# Altium footprint library Inductor_THT.PcbLib: 269 footprints (part 9 of 17)
Each footprint in its own frame and in the unit in brackets; x right, y up, seen from the top. Pads: shape width x height; smd on the part's side, far side on the other; paste and mask are expansions set on the pad; w line width, h text height; cw(c..) or ccw(c..) is an arc to the next point about the centre after c.
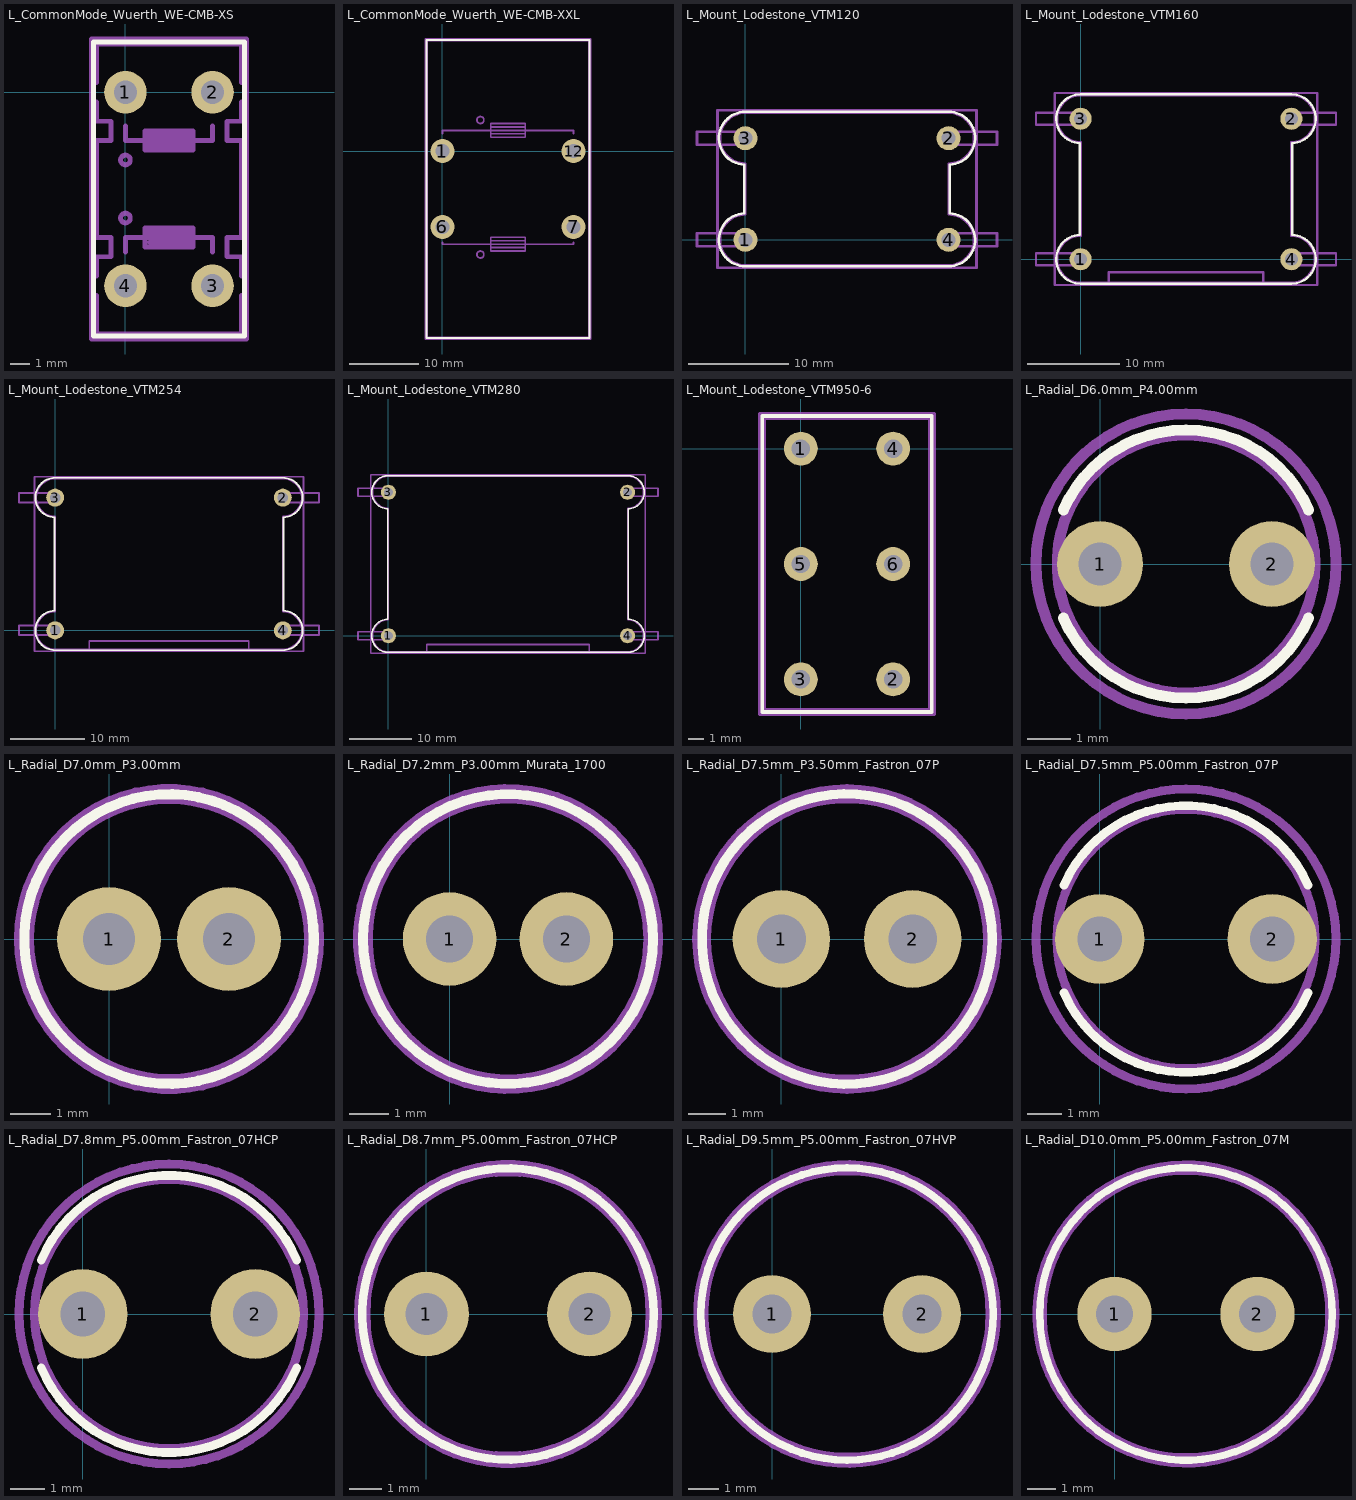
[diagram p8: the footprints below, top view; thin cyan lines are the x and y axes]

## L_CommonMode_Wuerth_WE-CMB-XS [mm]
pads (4):
  round 2.2 hole 1.2: 1(0,0) 2(4.5,0) 3(4.5,-10) 4(0,-10)
F.SilkS:
  lines w0.254: -1.65,-12.6 6.15,-12.6 6.15,2.6 -1.65,2.6 -1.65,-12.6
Top Assembly:
  circle w0.254: c0,-6.5 r0.25
  circle w0.254: c0,-3.5 r0.25
  lines w0.254: -1.5,-10.5 -1.5,-12.5 6,-12.5 6,-10.5 ; -1.5,-9.5 -1.5,-8.5 -0.75,-8.5 -0.75,-7.5 -1.5,-7.5 -1.5,-2.5 -0.75,-2.5 -0.75,-1.5 -1.5,-1.5 -1.5,-0.5 ; -1.5,0.5 -1.5,2.5 2.25,2.5 6,2.5 6,0.5 ; 0,-8.25 0,-7.5 1,-7.5 3.5,-7.5 4.5,-7.5 4.5,-8.25 ; 0,-1.75 0,-2.5 1,-2.5 ; 1,-7.25 3.5,-7.25 ; 1,-2.75 3.5,-2.75 ; 1.25,-7.75 3.5,-7.75 ; 3.5,-2.25 1,-2.25 1,-2.5 ; 4.5,-1.75 4.5,-2.5 3.5,-2.5 1,-2.5 ; 6,-9.5 6,-8.5 5.25,-8.5 5.25,-7.5 6,-7.5 6,-2.5 5.25,-2.5 5.25,-1.5 6,-1.5 6,-0.5 ; 1,-8 2.25,-8 3.5,-8 3.5,-7 1.25,-7 1,-7 1,-8 ; 1,-3 3.5,-3 3.5,-2 2.25,-2 1,-2 1,-3
  text "4" at 1.243,-10.65 h1
  text "2" at 2.267,-0.65 h1
  text "3" at 2.267,-10.65 h1
  text "'.Designator'" at -1.797,-5.84 h1
  text "1" at 1.481,-0.65 h1
Top Courtyard:
  lines w0.254: -1.75,-12.75 6.25,-12.75 6.25,2.75 -1.75,2.75 -1.75,-12.75
Top Designator:
  text ".Designator" at -5.402,-5.508 h1.52

## L_CommonMode_Wuerth_WE-CMB-XXL [mm]
pads (4):
  round 3.5 hole 2: 1(0,0) 6(0,-11) 7(19,-11) 12(19,0)
F.SilkS:
  lines w0.254: -2.3,-27.1 21.3,-27.1 21.3,16.1 -2.3,16.1 -2.3,-27.1
Top Assembly:
  circle w0.254: c5.5,-15 r0.5
  circle w0.254: c5.5,4.5 r0.5
  lines w0.254: 0,-13.25 0,-13.5 2,-13.5 3.5,-13.5 4.5,-13.5 7,-13.5 12,-13.5 14.5,-13.5 17,-13.5 19,-13.5 19,-13.25 ; 0,2.5 0,3 2,3 3.5,3 4.5,3 7,3 12,3 14.5,3 15.5,3 17,3 19,3 19,2.5 ; 7,-14 12,-14 ; 7,-13 12,-13 ; 7,2.5 12,2.5 ; 7,3.5 12,3.5 ; -2.25,-27 21.25,-27 21.25,16 -2.25,16 -2.25,-27 ; 7,-14.5 12,-14.5 12,-12.5 7,-12.5 7,-14.5 ; 7,2 12,2 12,4 9.5,4 7,4 7,2
  text "12" at 17.65,4.85 h1
  text "7" at 19.017,-16.15 h1
  text "1" at -0.769,4.85 h1
  text "6" at -0.959,-16.15 h1
  text "'.Designator'" at 5.453,-5.84 h1
Top Courtyard:
  lines w0.254: -2.5,-27.25 21.5,-27.25 21.5,16.25 -2.5,16.25 -2.5,-27.25
Top Designator:
  text ".Designator" at 1.882,-6.008 h1.52

## L_Mount_Lodestone_VTM120 [mm]
pads (4):
  round 2.4 hole 1.4: 1(0,0) 2(20.32,10.16) 3(0,10.16) 4(20.32,0)
F.SilkS:
  lines w0.254: -0.111,2.648 ccw(c0,0) 0,-2.65 20.32,-2.65 ccw(c20.32,0) 20.431,2.648 ; -0.11,2.65 -0.11,7.51 ; -0.111,7.512 cw(c0,10.16) 0,12.81 20.32,12.81 cw(c20.32,10.16) 20.431,7.512 ; 20.43,2.65 20.43,7.51
Top Assembly:
  lines w0.254: -4.84,-0.635 0,-0.635 ccw(c0,0) 0,0.635 -4.84,0.635 -4.84,-0.635 ; -4.84,9.525 0,9.525 ccw(c0,10.16) 0,10.795 -4.84,10.795 -4.84,9.525 ; 0,-2.54 cw(c0,0) 0,2.54 0,7.62 cw(c0,10.16) 0,12.7 20.32,12.7 cw(c20.32,10.16) 20.32,7.62 20.32,2.54 cw(c20.32,0) 20.32,-2.54 0,-2.54 ; 20.32,-0.635 cw(c20.32,0) 20.32,0.635 25.16,0.635 25.16,-0.635 20.32,-0.635 ; 20.32,9.525 cw(c20.32,10.16) 20.32,10.795 25.16,10.795 25.16,9.525 20.32,9.525
  text "'.Designator'" at 7.383,6.78 h1
Top Courtyard:
  lines w0.254: -2.79,-2.79 23.11,-2.79 23.11,12.95 -2.79,12.95 -2.79,-2.79
Top Designator:
  text ".Designator" at 2.542,4.572 h1.52

## L_Mount_Lodestone_VTM160 [mm]
pads (4):
  round 2.4 hole 1.4: 1(0,0) 2(22.86,15.24) 3(0,15.24) 4(22.86,0)
F.SilkS:
  lines w0.254: -0.111,2.648 ccw(c0,0) 0,-2.65 22.86,-2.65 ccw(c22.86,0) 22.971,2.648 ; -0.11,2.65 -0.11,12.59 ; -0.111,12.592 cw(c0,15.24) 0,17.89 22.86,17.89 cw(c22.86,15.24) 22.971,12.592 ; 22.97,2.65 22.97,12.59
Top Assembly:
  lines w0.254: 3.05,-2.54 3.05,-1.395 19.81,-1.395 19.81,-2.54 ; -4.84,-0.635 0,-0.635 ccw(c0,0) 0,0.635 -4.84,0.635 -4.84,-0.635 ; -4.84,14.605 0,14.605 ccw(c0,15.24) 0,15.875 -4.84,15.875 -4.84,14.605 ; 0,-2.54 cw(c0,0) 0,2.54 0,12.7 cw(c0,15.24) 0,17.78 22.86,17.78 cw(c22.86,15.24) 22.86,12.7 22.86,2.54 cw(c22.86,0) 22.86,-2.54 0,-2.54 ; 22.86,-0.635 cw(c22.86,0) 22.86,0.635 27.7,0.635 27.7,-0.635 22.86,-0.635 ; 22.86,14.605 cw(c22.86,15.24) 22.86,15.875 27.7,15.875 27.7,14.605 22.86,14.605
  text "'.Designator'" at 7.383,6.78 h1
Top Courtyard:
  lines w0.254: -2.79,-2.79 25.65,-2.79 25.65,18.03 -2.79,18.03 -2.79,-2.79
Top Designator:
  text ".Designator" at 3.812,7.112 h1.52

## L_Mount_Lodestone_VTM254 [mm]
pads (4):
  round 2.4 hole 1.4: 1(0,0) 2(30.48,17.78) 3(0,17.78) 4(30.48,0)
F.SilkS:
  lines w0.254: -0.111,2.648 ccw(c0,0) 0,-2.65 30.48,-2.65 ccw(c30.48,0) 30.591,2.648 ; -0.11,2.65 -0.11,15.13 ; -0.111,15.132 cw(c0,17.78) 0,20.43 30.48,20.43 cw(c30.48,17.78) 30.591,15.132 ; 30.59,2.65 30.59,15.13
Top Assembly:
  lines w0.254: 4.57,-2.54 4.57,-1.395 25.91,-1.395 25.91,-2.54 ; -4.84,-0.635 0,-0.635 ccw(c0,0) 0,0.635 -4.84,0.635 -4.84,-0.635 ; -4.84,17.145 0,17.145 ccw(c0,17.78) 0,18.415 -4.84,18.415 -4.84,17.145 ; 0,-2.54 cw(c0,0) 0,2.54 0,15.24 cw(c0,17.78) 0,20.32 30.48,20.32 cw(c30.48,17.78) 30.48,15.24 30.48,2.54 cw(c30.48,0) 30.48,-2.54 0,-2.54 ; 30.48,-0.635 cw(c30.48,0) 30.48,0.635 35.32,0.635 35.32,-0.635 30.48,-0.635 ; 30.48,17.145 cw(c30.48,17.78) 30.48,18.415 35.32,18.415 35.32,17.145 30.48,17.145
  text "'.Designator'" at 11.193,8.05 h1
Top Courtyard:
  lines w0.254: -2.79,-2.79 33.27,-2.79 33.27,20.57 -2.79,20.57 -2.79,-2.79
Top Designator:
  text ".Designator" at 7.622,8.382 h1.52

## L_Mount_Lodestone_VTM280 [mm]
pads (4):
  round 2.4 hole 1.4: 1(0,0) 2(38.1,22.86) 3(0,22.86) 4(38.1,0)
F.SilkS:
  lines w0.254: -0.111,2.648 ccw(c0,0) 0,-2.65 38.1,-2.65 ccw(c38.1,0) 38.211,2.648 ; -0.11,2.65 -0.11,20.21 ; -0.111,20.212 cw(c0,22.86) 0,25.51 38.1,25.51 cw(c38.1,22.86) 38.211,20.212 ; 38.21,2.65 38.21,20.21
Top Assembly:
  lines w0.254: 6.1,-2.54 6.1,-1.395 32,-1.395 32,-2.54 ; -4.84,-0.635 0,-0.635 ccw(c0,0) 0,0.635 -4.84,0.635 -4.84,-0.635 ; -4.84,22.225 0,22.225 ccw(c0,22.86) 0,23.495 -4.84,23.495 -4.84,22.225 ; 0,-2.54 cw(c0,0) 0,2.54 0,20.32 cw(c0,22.86) 0,25.4 38.1,25.4 cw(c38.1,22.86) 38.1,20.32 38.1,2.54 cw(c38.1,0) 38.1,-2.54 0,-2.54 ; 38.1,-0.635 cw(c38.1,0) 38.1,0.635 42.94,0.635 42.94,-0.635 38.1,-0.635 ; 38.1,22.225 cw(c38.1,22.86) 38.1,23.495 42.94,23.495 42.94,22.225 38.1,22.225
  text "'.Designator'" at 15.003,10.59 h1
Top Courtyard:
  lines w0.254: -2.79,-2.79 40.89,-2.79 40.89,25.65 -2.79,25.65 -2.79,-2.79
Top Designator:
  text ".Designator" at 11.432,10.922 h1.52

## L_Mount_Lodestone_VTM950-6 [mm]
pads (6):
  round 2.2 hole 1.2: 1(0,0) 2(6,-15) 3(0,-15) 4(6,0) 5(0,-7.5) 6(6,-7.5)
F.SilkS:
  lines w0.254: -2.51,-17.11 -2.51,2.11 8.51,2.11 8.51,-17.11 -2.51,-17.11
Top Assembly:
  lines w0.254: -2.4,-17 -2.4,2 8.4,2 8.4,-17 -2.4,-17
  text "'.Designator'" at -1.047,-8.34 h1
Top Courtyard:
  lines w0.254: -2.65,-17.25 -2.65,2.25 8.65,2.25 8.65,-17.25 -2.65,-17.25
Top Designator:
  text ".Designator" at -4.618,-8.008 h1.52

## L_Radial_D6.0mm_P4.00mm [mm]
pads (2):
  round 2 hole 1: 1(0,0) 2(4,0)
F.SilkS:
  lines w0.254: -0.854,-1.26 ccw(c2,0) 4.854,-1.26 ; -0.854,1.26 cw(c2,0) 4.854,1.26
Top Assembly:
  circle w0.254: c2,0 r3
  text "'.Designator'" at -2.047,-0.84 h1
Top Courtyard:
  circle w0.254: c2,0 r3.49
Top Designator:
  text ".Designator" at -5.768,-0.508 h1.52
3D body "L_Radial_D6.0mm_P4.00mm.step": height 4.65, standoff -3, extent -1,-3 5,3

## L_Radial_D7.0mm_P3.00mm [mm]
pads (2):
  round 2.6 hole 1.3: 1(0,0) 2(3,0)
F.SilkS:
  circle w0.254: c1.5,0 r3.62
Top Assembly:
  circle w0.254: c1.5,0 r3.5
  text "'.Designator'" at -2.547,-0.84 h1
Top Courtyard:
  circle w0.254: c1.5,0 r3.75
Top Designator:
  text ".Designator" at -6.268,-0.508 h1.52
3D body "L_Radial_D7.0mm_P3.00mm.step": height 9.55, standoff -3, extent -2,-3.497 5,3.497

## L_Radial_D7.2mm_P3.00mm_Murata_1700 [mm]
pads (2):
  round 2.4 hole 1.2: 1(0,0) 2(3,0)
F.SilkS:
  circle w0.254: c1.5,0 r3.72
Top Assembly:
  circle w0.254: c1.5,0 r3.6
  text "'.Designator'" at -2.547,-0.84 h1
Top Courtyard:
  circle w0.254: c1.5,0 r3.85
Top Designator:
  text ".Designator" at -6.227,-0.508 h1.52
3D body "L_Radial_D7.2mm_P3.00mm_Murata_1700.step": height 8.6, standoff -3, extent -2.1,-3.597 5.1,3.597

## L_Radial_D7.5mm_P3.50mm_Fastron_07P [mm]
pads (2):
  round 2.6 hole 1.3: 1(0,0) 2(3.5,0)
F.SilkS:
  circle w0.254: c1.75,0 r3.87
Top Assembly:
  circle w0.254: c1.75,0 r3.75
  text "'.Designator'" at -2.297,-0.84 h1
Top Courtyard:
  circle w0.254: c1.75,0 r4
Top Designator:
  text ".Designator" at -5.902,-0.508 h1.52
3D body "L_Radial_D7.5mm_P3.50mm_Fastron_07P.step": height 12.55, standoff -3, extent -2,-3.75 5.5,3.75

## L_Radial_D7.5mm_P5.00mm_Fastron_07P [mm]
pads (2):
  round 2.6 hole 1.3: 1(0,0) 2(5,0)
F.SilkS:
  lines w0.254: -1.042,-1.56 ccw(c2.5,0) 6.042,-1.56 ; -1.042,1.56 cw(c2.5,0) 6.042,1.56
Top Assembly:
  circle w0.254: c2.5,0 r3.75
  text "'.Designator'" at -1.547,-0.84 h1
Top Courtyard:
  circle w0.254: c2.5,0 r4.35
Top Designator:
  text ".Designator" at -5.118,-0.508 h1.52
3D body "L_Radial_D7.5mm_P5.00mm_Fastron_07P.step": height 12.55, standoff -3, extent -1.25,-3.75 6.25,3.75

## L_Radial_D7.8mm_P5.00mm_Fastron_07HCP [mm]
pads (2):
  round 2.6 hole 1.3: 1(0,0) 2(5,0)
F.SilkS:
  lines w0.254: -1.205,-1.56 ccw(c2.5,0) 6.205,-1.56 ; -1.205,1.56 cw(c2.5,0) 6.205,1.56
Top Assembly:
  circle w0.254: c2.5,0 r3.9
  text "'.Designator'" at -1.547,-0.84 h1
Top Courtyard:
  circle w0.254: c2.5,0 r4.35
Top Designator:
  text ".Designator" at -5.118,-0.508 h1.52
3D body "L_Radial_D7.8mm_P5.00mm_Fastron_07HCP.step": height 7.6, standoff -3, extent -1.4,-3.897 6.4,3.897

## L_Radial_D8.7mm_P5.00mm_Fastron_07HCP [mm]
pads (2):
  round 2.6 hole 1.3: 1(0,0) 2(5,0)
F.SilkS:
  circle w0.254: c2.5,0 r4.47
Top Assembly:
  circle w0.254: c2.5,0 r4.35
  text "'.Designator'" at -1.547,-0.84 h1
Top Courtyard:
  circle w0.254: c2.5,0 r4.6
Top Designator:
  text ".Designator" at -5.118,-0.508 h1.52
3D body "L_Radial_D8.7mm_P5.00mm_Fastron_07HCP.step": height 10.05, standoff -3, extent -1.85,-4.347 6.85,4.347

## L_Radial_D9.5mm_P5.00mm_Fastron_07HVP [mm]
pads (2):
  round 2.6 hole 1.3: 1(0,0) 2(5,0)
F.SilkS:
  circle w0.254: c2.5,0 r4.87
Top Assembly:
  circle w0.254: c2.5,0 r4.75
  text "'.Designator'" at -1.547,-0.84 h1
Top Courtyard:
  circle w0.254: c2.5,0 r5
Top Designator:
  text ".Designator" at -5.118,-0.508 h1.52
3D body "L_Radial_D9.5mm_P5.00mm_Fastron_07HVP.step": height 10.05, standoff -3, extent -2.25,-4.747 7.25,4.747

## L_Radial_D10.0mm_P5.00mm_Fastron_07M [mm]
pads (2):
  round 2.6 hole 1.3: 1(0,0) 2(5,0)
F.SilkS:
  circle w0.254: c2.5,0 r5.12
Top Assembly:
  circle w0.254: c2.5,0 r5
  text "'.Designator'" at -1.547,-0.84 h1
Top Courtyard:
  circle w0.254: c2.5,0 r5.25
Top Designator:
  text ".Designator" at -5.118,-0.508 h1.52
3D body "L_Radial_D10.0mm_P5.00mm_Fastron_07M.step": height 12.75, standoff -3, extent -2.5,-5 7.5,5